# Altium footprint library DPAK508P1524X483-3N.PcbLib: 1 footprints
Each footprint in its own frame and in the unit in brackets; x right, y up, seen from the top. Pads: shape width x height; smd on the part's side, far side on the other; paste and mask are expansions set on the pad; w line width, h text height; cw(c..) or ccw(c..) is an arc to the next point about the centre after c.
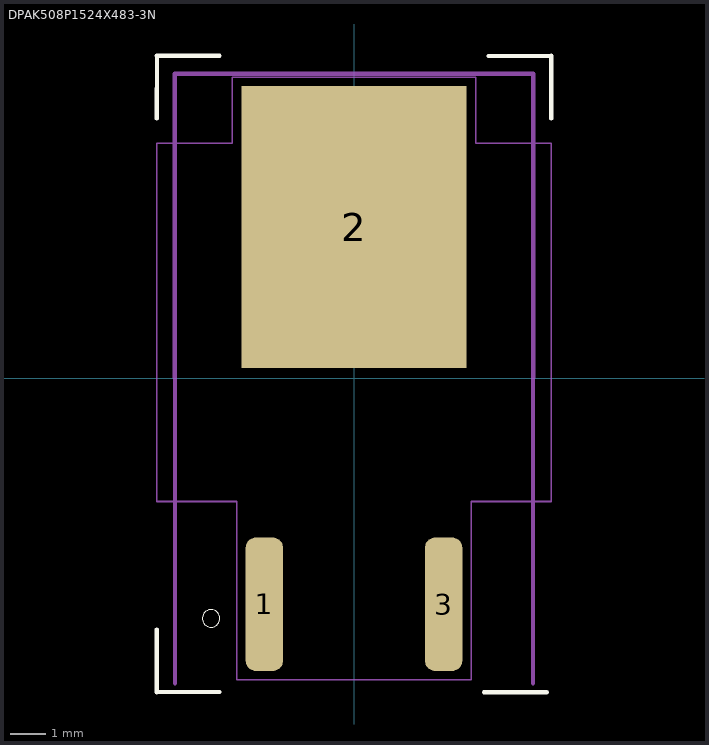
[diagram p0: the footprint, top view; thin cyan lines are the x and y axes]

## DPAK508P1524X483-3N [mm]
pads (3):
  rrect53% 1.06x3.78 smd: 1(-2.54,-6.4) 3(2.54,-6.4)
  rect 6.39x8 smd: 2(0,4.29)
Top Overlay:
  circle w0: c-4.05,-6.8 r0.25
  lines w0.12: -5.589,-8.891 -5.588,-7.112 ; -5.589,-8.889 -3.81,-8.89 ; -5.589,9.145 -3.81,9.144 ; -5.588,7.366 -5.587,9.145 ; 3.683,-8.89 5.462,-8.891 ; 3.81,9.144 5.589,9.143 ; 5.588,7.366 5.589,9.145
Mechanical 14:
  lines w0.12: -5.075,-8.636 -5.081,8.638 5.081,8.634 5.074,-8.636
Mechanical 15:
  lines w0.05: -5.59,-3.49 -5.59,6.67 -3.45,6.67 -3.45,8.54 3.45,8.54 3.45,6.67 5.59,6.67 5.59,-3.49 3.32,-3.49 3.32,-8.54 -3.32,-8.54 -3.32,-3.49 -5.59,-3.49
3D body "IRF9530NSPBF.step": height 4.83, standoff -0.25, extent -5.08,-8.001 5.08,7.239